# EAGLE library part RJSHE3380 (library main_board)
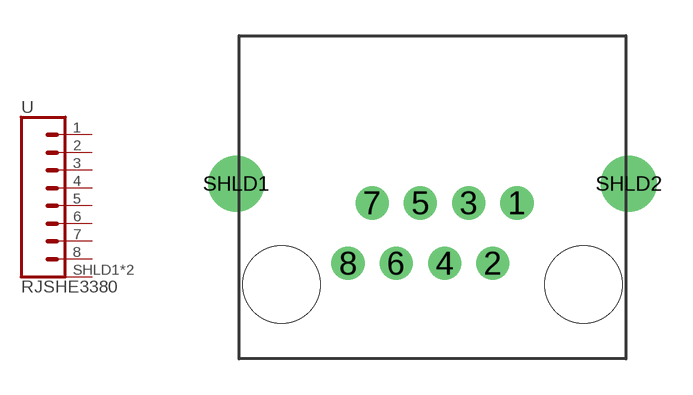
[diagram p5: symbol with the pads of RJHSE-3380; footprint RJHSE-3380]

Designator prefix -

## RJSHE3380  [RJHSE-3380]
1  1  pas
2  2  pas
3  3  pas
4  4  pas
5  5  pas
6  6  pas
7  7  pas
8  8  pas
SHLD1  SHLD  pas
SHLD2  SHLD  pas

## Footprint RJHSE-3380 (pad centres in mm)
Conn Mod 8p8c Shielded 13.5x16mm
drill 0.89 pad 1.27: 1 3.55,0.94; 2 2.54,-1.6; 3 1.53,0.94; 4 0.51,-1.6; 5 -0.51,0.94; 6 -1.53,-1.6; 7 -2.54,0.94; 8 -3.55,-1.6
drill 1.57 pad 2: SHLD1 -8.26,1.75; SHLD2 8.26,1.75
hole 3.25 at -6.35,-2.49
hole 3.25 at 6.35,-2.49